# Altium schematic symbol library EnergyHarvester_2012.SchLib: 22 symbols
Pins are listed as number, name and electrical type; pins without a type are passive.

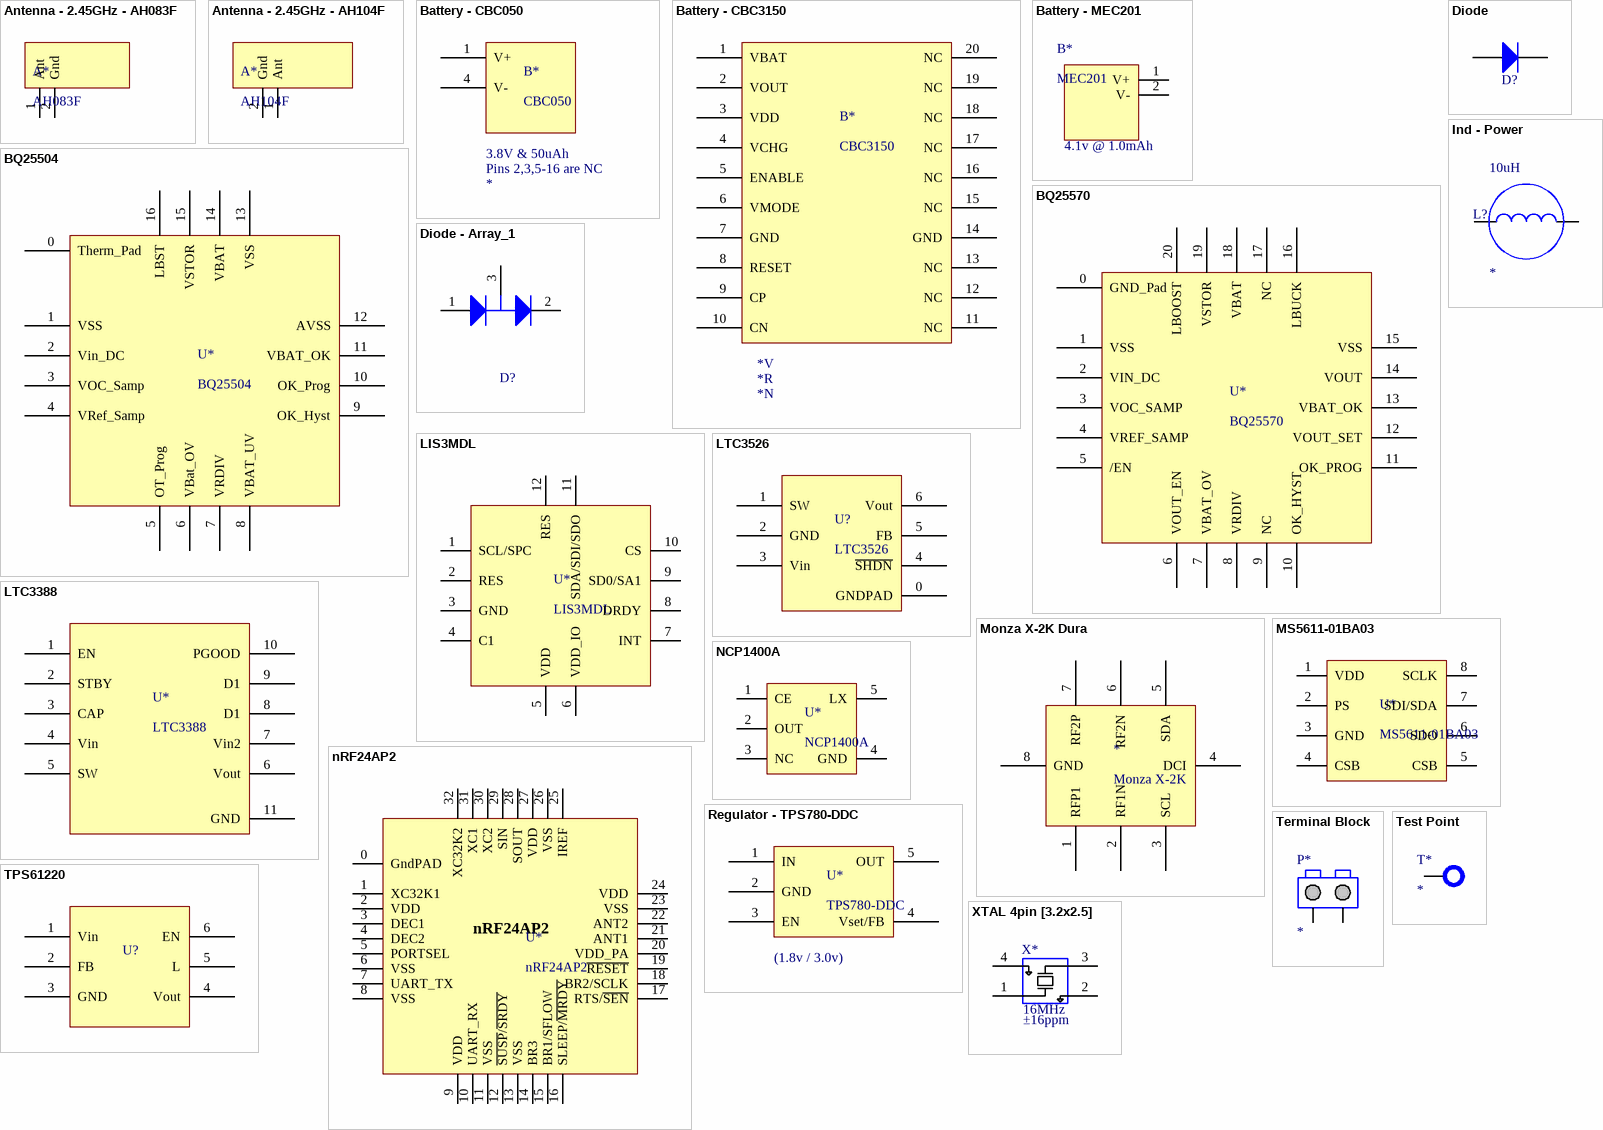
[diagram p0: symbols Antenna - 2.45GHz - AH083F to XTAL 4pin [3.2x2.5]]

## Antenna - 2.45GHz - AH083F
designator A*, comment AH083F
2.45GHz Chip Antenna - [smaller, 150MHz BW]; Manufacturer: Taiyo Yuden; Manufacturer Part Number: AH083F245001-T; Digi-Key Part Number: 587-1725-1-ND; Value: *; Note: *; Rating: *
footprint Antenna - AH083F (2.4GHz Chip Antenna - Taiyo Yuden - AH083F245001-T)
pins: 1 Ant, 2 Gnd

## Antenna - 2.45GHz - AH104F
designator A*, comment AH104F
2.45GHz Chip Antenna - [Larger, 300MHz BW]; Manufacturer: Taiyo Yuden; Manufacturer Part Number: AH104F2450S1-T; Digi-Key Part Number: 587-1726-1-ND; Value: *; Note: *; Rating: *
footprint Antenna - AH104F (2.4GHz Chip Antenna - Taiyo Yuden - AH104F2450S1-T)
pins: 1 Ant, 2 Gnd

## Battery - CBC050
designator B*, comment CBC050  value 3.8V & 50uAh  Note: Pins 2,3,5-16 are NC
IC BATT SOLID ST ENERCHIP 16QFN; Manufacturer: Cymbet Corporation; Manufacturer Part Number: CBC050-M8C-TR1; Digi-Key Part Numbe: 859-1009-1-ND; Rating: *
footprint Battery - CBC050 (Rechargeable Solid State Energy Storage: 50µAh, 3.8V)
pins: 1 V+, 2 NC hidden, 3 NC hidden, 4 V-, 5 NC hidden, 6 NC hidden, 7 NC hidden, 8 NC hidden, 9 NC hidden, 10 NC hidden, 11 NC hidden, 12 NC hidden, 13 NC hidden, 14 NC hidden, 15 NC hidden, 16 NC hidden

## Battery - CBC3150
designator B*, comment CBC3150  value *V  Note: *N  Rating: *R
IC BATT SOLID ST ENERCHIP 20DFN; Manufacturer: Cymbet Corporation; Manufacturer Part Number: CBC3150-D9C-TR1; Digi-Key Part Numbe: 859-1008-1-ND
pins: 1 VBAT, 2 VOUT, 3 VDD, 4 VCHG, 5 ENABLE, 6 VMODE, 7 GND, 8 RESET, 9 CP, 10 CN, 11 NC, 12 NC, 13 NC, 14 GND, 15 NC, 16 NC, 17 NC, 18 NC, 19 NC, 20 NC

## Battery - MEC201
designator B*, comment MEC201  value 4.1v @ 1.0mAh
ThinFilm solid state battery  - 4.1V 1.0MAH; Manufacturer Part Number: MEC201-10S (several in same formfactor); Manufacturer: Infinite Power Solutions; Note: *N; Rating: *R; Digi-Key Part Number: MEC201-10SCT-ND (several in same formfactor)
footprint Battery - MEC201 (Thin-Film Battery - 25.4 x 25.4 x 0.170mm)
pins: 1 V+, 2 V-

## BQ25504
designator U*
IC ENERGY HARV CTRLR BATT 16QFN; Manufacturer Part Number: BQ25504RGTT; Manufacturer: Texas Instruments; Digi-Key Part Number: 296-29741-1-ND; Note: *; Rating: *; Value: *
footprint BQ25504 (QFN, 16-Leads, Body 3.2x3.2mm (max))
pins: 0 Therm_Pad, 1 VSS, 2 Vin_DC, 3 VOC_Samp, 4 VRef_Samp, 5 OT_Prog, 6 VBat_OV, 7 VRDIV, 8 VBAT_UV, 9 OK_Hyst, 10 OK_Prog, 11 VBAT_OK, 12 AVSS, 13 VSS, 14 VBAT, 15 VSTOR, 16 LBST

## BQ25570
designator U*
Energy Harvesting PMIC with Boost and  Buck Converter - 20QFN; Manufacturer: Texas Instruments; Digi-Key Part Number: TBD; Manufacturer Part Number: BQ25570; Note: *; Rating: *; Value: *
footprint BQ25570 (QFN, 20-Leads, Body 3.5x3.5mm)
pins: 0 GND_Pad, 1 VSS, 2 VIN_DC, 3 VOC_SAMP, 4 VREF_SAMP, 5 /EN, 6 VOUT_EN, 7 VBAT_OV, 8 VRDIV, 9 NC, 10 OK_HYST, 11 OK_PROG, 12 VOUT_SET, 13 VBAT_OK, 14 VOUT, 15 VSS, 16 LBUCK, 17 NC, 18 VBAT, 19 VSTOR, 20 LBOOST

## Diode
designator D?  (value not drawn)
General Purpose Diode; Manufacturer: *; Manufacturer Part Number: *; Digi-Key Part Number: *; Value: *; Rating: *; Note: *
footprint Diode - 0603 (Diode: Body 1.6 x 0.8 mm (LxW typ))
pins: 1 A, 2 C

## Diode - Array_1
designator D?, comment Diode Array  (value not drawn)
Diode Array, Two in Series, Small Package SOT-323; Note: *; Manufacturer: *; Manufacturer Part Number: *; Digi-Key Part Number: *; Value: *; Rating: *
footprint SOT23 - N (SOT23, 3-Leads, Body 2.9x1.3mm, Pitch 0.95mm, Lead Span 2.3mm - Reverse Pinning, IPC Medium Density)
pins: 1 A, 2 K, 3 C

## Ind - Power
designator L?  value 10uH  (hidden comment: Ind - Power)
Power Inductor; Digi-Key Part Number: *; Manufacturer: *; Manufacturer Part Number: *; Note: *; Rating: *
footprint Ind - LPS4018 (Coilcraft - LPS4018 Series Low Profile  Shielded Power Inductors)
footprint Ind - LPS4018 [square] (Coilcraft - LPS4018 Series Low Profile  Shielded Power Inductors)
pins: 1, 2

## LIS3MDL
designator U*
Digital output magnetic sensor: Compass; Manufacturer: STMicroelectronics; Digi-Key Part Number: *; Manufacturer Part Number: LIS3MDL; Note: *; Value: *; Rating: *
footprint LIS3MDL (VFLGA 2x2x1 12LD)
pins: 1 SCL/SPC, 2 RES, 3 GND, 4 C1, 5 VDD, 6 VDD_IO, 7 INT, 8 DRDY, 9 SD0/SA1, 10 CS, 11 SDA/SDI/SDO, 12 RES

## LTC3388
designator U*
IC REG BUCK SYNC 50MA 10DFN; Manufacturer: Linear Technology; Manufacturer Part Number: LTC3388EMSE-1#PBF or LTC3388EDD-3#PBF; Value: *V; Note: *N; Rating: *R; Digi-Key Part Number: LTC3388EDD-1#PBF-ND
footprint TC3388 - DFN (IC REG BUCK SYNC 50MA 10DFN)
pins: 1 EN, 2 STBY, 3 CAP, 4 Vin, 5 SW, 6 Vout, 7 Vin2, 8 D1, 9 D1, 10 PGOOD, 11 GND

## LTC3526
designator U?
IC REG BOOST SYNC ADJ 0.55A 6DFN; Manufacturer Part Number: LTC3526LEDC or LTC3526LEDC-2; Manufacturer: Linear Technology; Note: Make sure to get the Burst mode enable verstion (without the B in the name); Digi-Key Part Number: Example: LTC3526LEDC#TRMPBFCT-ND; Value: *; Rating: *
footprint DFN-6 (6 Pin DFN with GND pad)
pins: 0 GNDPAD, 1 SW, 2 GND, 3 Vin, 4 ~{SHDN}, 5 FB, 6 Vout

## Monza X-2K Dura
designator *, comment Monza X-2K
Impinj Monza X-8K Dura, RFID IC with I2C Interface; Manufacturer Part Number: IPJ-P6001-Q2AT; Digi-Key Part Number: *; Manufacturer: Impinj; Note: *; Rating: *; Value: *
footprint Monza X-2K (Impinj Monza X-2K Dura, RFID tag with I2C interface)
pins: 1 RFP1, 2 RF1N, 3 SCL, 4 DCI, 5 SDA, 6 RF2N, 7 RF2P, 8 GND

## MS5611-01BA03
designator U*
Barometric Pressure Sensor, with stainless steel cap; Manufacturer: Measurement Specialties; Digi-Key Part Number: *; Manufacturer Part Number: MS5611-01BA03; Note: *; Value: *; Rating: *
footprint MS5611-01BA03 (MS5611-01BA - pressure sensor)
pins: 1 VDD, 2 PS, 3 GND, 4 CSB, 5 CSB, 6 SDO, 7 SDI/SDA, 8 SCLK

## NCP1400A
designator U*
Boost Converter; Vin = 0.8v start (down to 0.2v) Several fixed output; Manufacturer: ON Semiconductor; Manufacturer Part Number: NCP1400ASN33T1G; Digi-Key Part Number: NCP1400ASN33T1GOSCT-ND; Value: *; Rating: *; Note: *
footprint SOT23-5
pins: 1 CE, 2 OUT, 3 NC, 4 GND, 5 LX

## nRF24AP2
designator U*
RF Transceiver SNGL-CHP ANT SOL W/1-CH or 8-CH; Manufacturer Part Number: nRF24AP2 - (1CH/8CH); Manufacturer: Nordic Semiconductor; Digi-Key Part Number: Mouser: 949-NRF24AP21CH32R; Note: *; Rating: *; Value: *
footprint nRF24AP2 (RF Transceiver SNGL-CHP ANT SOL W)
footprint nRF24AP2 - No Via (RF Transceiver SNGL-CHP ANT (Modifed to meet sunstone via rules))
pins: 0 GndPAD, 1 XC32K1, 2 VDD, 3 DEC1, 4 DEC2, 5 PORTSEL, 6 VSS, 7 UART_TX, 8 VSS, 9 VDD, 10 UART_RX, 11 VSS, 12 ~{SUSP}/~{SRDY}, 13 VSS, 14 BR3, 15 BR1/SFLOW, 16 SLEEP/~{MRDY}, 17 RTS/~{SEN}, 18 BR2/SCLK, 19 ~{RESET}, 20 VDD_PA, 21 ANT1, 22 ANT2, 23 VSS, 24 VDD, 25 IREF, 26 VSS, 27 VDD, 28 SOUT, 29 SIN, 30 XC2, 31 XC1, 32 XC32K2

## Regulator - TPS780-DDC
designator U*, comment TPS780-DDC  value (1.8v / 3.0v)
LDO - IC REG LDO 3.3/2.2V .15A; Manufacturer: Texas Instruments; Manufacturer Part Number: TPS780180300DRVR; Note: *N; Rating: *R; Digi-Key Part Number: 296-29816-1-ND
footprint SOT23-5
pins: 1 IN, 2 GND, 3 EN, 4 Vset/FB, 5 OUT

## Terminal Block
designator P*
Terminal Block for Power; Manufacturer: ON SHORE TECHNOLOGY INC; Manufacturer Part Number: ED120/2DS; Rating: 300V @ 15A; Digi-Key Part Number: ED1609-ND; Note: *; Value: *
footprint Terminal Block (TERMINAL BLOCK 5.08MM VERT 2POS)
pins: 1, 2

## Test Point
designator T*
Test Point, large or small foot prints; Manufacturer Part Number: Example: 5000, 5013; Manufacturer: Keystone Electronics; Note: DNP; Digi-key: Example: 5000K-ND, 5012K-ND; Value: *; Rating: *
footprint Test Point - Large (Test Point, 63mil hole, example DK: 5012K-ND)
footprint Test Point - Small (Test Point, 40mil hole, example DK: 5000K-ND)
pins: 1 test_point

## TPS61220
designator U?  (value not drawn)
.7V Boost Converter (adjustble or fixed 3.3v / 5.5); Manufacturer Part Number: TPS61220 or TPS61221 or TPS61222; Manufacturer: Texas Instruments; Digi-Key Part Number: 296-32505-1-ND; Value: *; Rating: *; Note: *
footprint SC70-6
pins: 1 Vin, 2 FB, 3 GND, 4 Vout, 5 L, 6 EN

## XTAL 4pin [3.2x2.5]
designator X*  value 16MHz  Rating: ±16ppm  (hidden comment: XTAL 4pin [3.2x2.5])
4-Pin Surface Mount; Manufacturer Part Number: CX3225SB16000E0FPZ25; Manufacturer: AVX Corp/Kyocera Corp; Digi-Key Part Number: 478-4815-1-ND
footprint XTAL 2.5mm x 2.0mm (CRYSTAL, 2.5mm x 2.0mm,  4Pin)
footprint bt-xtal 3225
pins: 1 XIN, 2 Gnd, 3 XOUT, 4 Gnd